# Altium footprint library BUCKCONVERTER-V1L11.PcbLib: 35 footprints (part 1 of 3)
Each footprint in its own frame and in the unit in brackets; x right, y up, seen from the top. Pads: shape width x height; smd on the part's side, far side on the other; paste and mask are expansions set on the pad; w line width, h text height; cw(c..) or ccw(c..) is an arc to the next point about the centre after c.
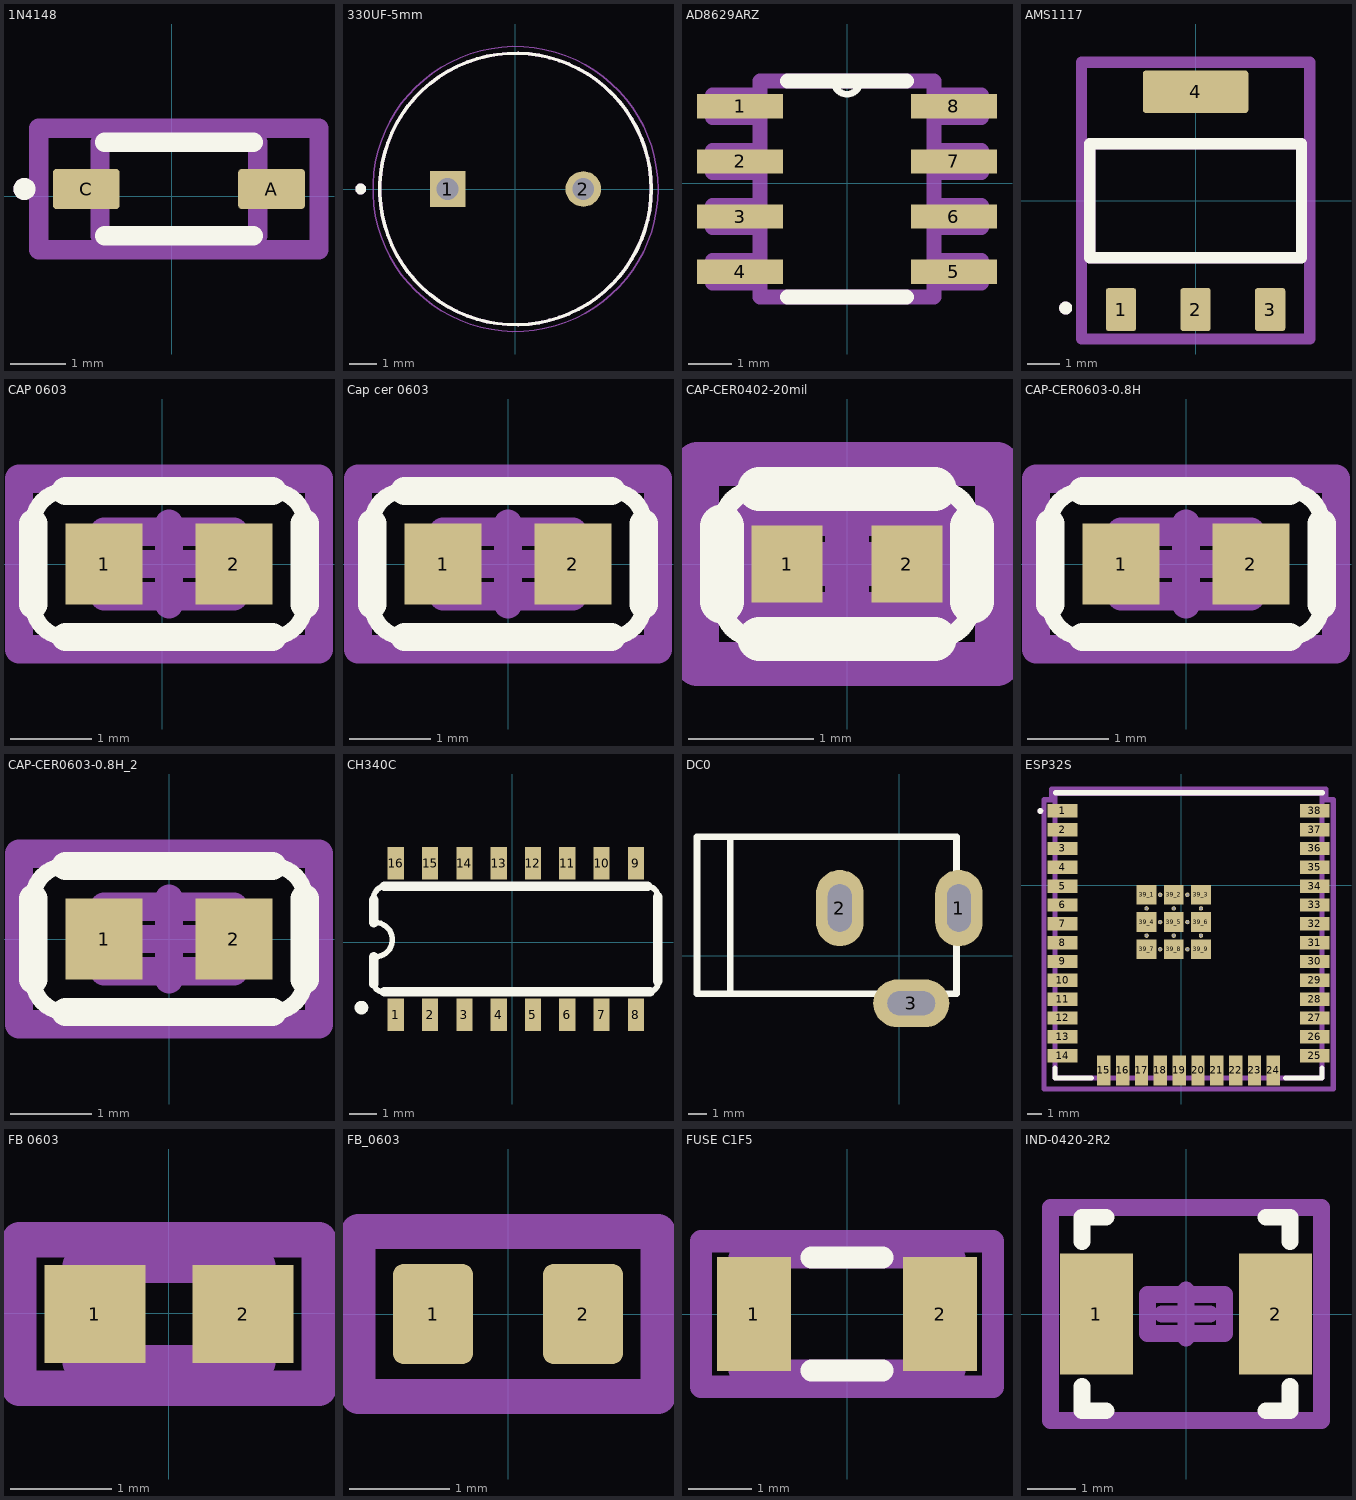
[diagram p0: the footprints below, top view; thin cyan lines are the x and y axes]

## 1N4148 [mm]
pads (2):
  rrect18% 1.21x0.73 smd: A(1.807,0.127) C(-1.553,0.127)
Top Overlay:
  circle w0.2: c-2.673,0.127 r0.1
  lines w0.35: -1.223,-0.723 1.477,-0.723 ; -1.223,0.977 1.477,0.977
Mechanical 13:
  circle w0.2: c-2.673,0.127 r0.1
  lines w0.35: -1.303,-0.723 1.557,-0.723 1.557,0.977 -1.303,0.977 -1.303,-0.723
Mechanical 15:
  lines w0.35: -2.413,-0.973 2.667,-0.973 2.667,1.227 -2.413,1.227 -2.413,-0.973
3D body "step_temp.STEP": height 0.74, standoff -0.71, extent -1.698,-0.648 1.952,0.902

## 330UF-5mm [mm]
pads (2):
  rect 1.308x1.308 / inner round 1.308 / far side rect 1.308x1.308 hole 0.8: 1(-2.5,0)
  round 1.308 hole 0.8: 2(2.5,0)
Top Overlay:
  circle w0.2: c-5.7,0 r0.1
  circle w0.127: c0,0 r5
Mechanical 13:
  circle w0.2: c-5.7,0 r0.1
  circle w0.127: c0,0 r5
Mechanical 15:
  circle w0.05: c0,0 r5.25
3D body "step_temp.STEP": height 20, standoff -19, extent -5,-4.996 5,4.996

## AD8629ARZ [mil]
pads (8):
  rect 78x22 smd: 1(-97,70) 2(-97,20) 3(-97,-30) 4(-97,-80) 5(97,-80) 6(97,-30) 7(97,20) 8(97,70)
Top Overlay:
  lines w6: -12,93 ccw(c0,93) 12,93
  lines w13.78: -54,-103 54,-103 ; -54,93 -12,93 12,93 54,93
Mechanical 13:
  lines w0: -12,93 ccw(c0,93) 12,93
  lines w13.78: -122,-90 -79,-90 -79,-70 -122,-70 -122,-90 ; -122,-40 -79,-40 -79,-20 -122,-20 -122,-40 ; -122,10 -79,10 -79,30 -122,30 -122,10 ; -122,60 -79,60 -79,80 -122,80 -122,60 ; -79,-103 -79,93 -12,93 12,93 79,93 79,-103 -79,-103 ; 79,-90 122,-90 122,-70 79,-70 79,-90 ; 79,-40 122,-40 122,-20 79,-20 79,-40 ; 79,10 122,10 122,30 79,30 79,10 ; 79,60 122,60 122,80 79,80 79,60
3D body "step_temp.STEP": height 68.9, standoff 0, extent -118.11,-101.46 118.11,91.46

## AMS1117 [mm]
pads (4):
  rrect15% 0.93x1.31 smd: 1(-2.29,-3.345) 2(0,-3.345) 3(2.29,-3.345)
  rrect15% 3.24x1.31 smd: 4(0,3.345)
Top Overlay:
  circle w0.2: c-3.99,-3.3 r0.1
  lines w0.35: -3.253,-1.753 3.253,-1.753 3.253,1.753 -3.253,1.753 -3.253,-1.753
Mechanical 13:
  circle w0.2: c-3.99,-3.3 r0.1
  lines w0.35: -3.253,-1.753 3.253,-1.753 3.253,1.753 -3.253,1.753 -3.253,-1.753
Mechanical 15:
  lines w0.35: -3.502,-4.25 3.502,-4.25 3.502,4.25 -3.502,4.25 -3.502,-4.25
3D body "step_temp.STEP": height 1.8, standoff 0, extent -3.251,-3.499 3.251,3.499

## CAP 0603 [mm]
pads (2):
  rect 0.95x1 smd: 1(-0.715,0) 2(0.885,0)
Top Overlay:
  lines w0.2: -1.59,-0.5 ccw(c-1.19,-0.5) -1.19,-0.9 ; -1.59,0.5 cw(c-1.19,0.5) -1.19,0.9 ; 1.36,-0.9 ccw(c1.36,-0.5) 1.76,-0.5 ; 1.36,0.9 cw(c1.36,0.5) 1.76,0.5
  lines w0.35: -1.59,-0.5 -1.59,0.5 ; -1.19,-0.9 1.36,-0.9 ; -1.19,0.9 1.36,0.9 ; 1.76,-0.5 1.76,0.5
Top Value:
  lines w0.35: -0.715,-0.4 0.885,-0.4 0.885,0.4 -0.715,0.4 -0.715,-0.4
  text "'.Comment'" at -3.004,-0.4 h0.8
Top Assembly:
  lines w0.35: -0.715,-0.4 0.885,-0.4 0.885,0.4 -0.715,0.4 -0.715,-0.4
  text "'.Designator'" at -3.329,-0.266 h0.8
Bottom 3D Body:
  lines w0.35: -0.415,0 0.585,0 ; 0.085,-0.5 0.085,0.5 ; -1.765,-1.05 1.935,-1.05 1.935,1.05 -1.765,1.05 -1.765,-1.05
3D body "Ceramic_Capacitor_0603_h32mil_Solder.step": height 0.82, standoff 0, extent -1.19,-0.5 1.36,0.5

## Cap cer 0603 [mm]
pads (2):
  rect 0.95x1 smd: 1(-0.8,0.003) 2(0.8,0.003)
Top Overlay:
  lines w0.2: -1.675,-0.497 ccw(c-1.275,-0.497) -1.275,-0.897 ; -1.675,0.503 cw(c-1.275,0.503) -1.275,0.903 ; 1.275,-0.897 ccw(c1.275,-0.497) 1.675,-0.497 ; 1.275,0.903 cw(c1.275,0.503) 1.675,0.503
  lines w0.35: -1.675,-0.497 -1.675,0.503 ; -1.275,-0.897 1.275,-0.897 ; -1.275,0.903 1.275,0.903 ; 1.675,-0.497 1.675,0.503
Top Value:
  lines w0.35: -0.8,-0.397 0.8,-0.397 0.8,0.403 -0.8,0.403 -0.8,-0.397
  text "'.Comment'" at -3.089,-0.397 h0.8
Top Assembly:
  lines w0.35: -0.8,-0.397 0.8,-0.397 0.8,0.403 -0.8,0.403 -0.8,-0.397
  text "'.Designator'" at -3.414,-0.263 h0.8
Bottom 3D Body:
  lines w0.35: -0.5,0.003 0.5,0.003 ; 0,-0.497 0,0.503 ; -1.85,-1.047 1.85,-1.047 1.85,1.053 -1.85,1.053 -1.85,-1.047
3D body "Ceramic_Capacitor_0603_h32mil_Solder.step": height 0.82, standoff 0, extent -1.275,-0.497 1.275,0.503

## CAP-CER0402-20mil [mm]
pads (2):
  rect 0.57x0.62 smd: 1(-0.48,0) 2(0.48,0)
Top Overlay:
  lines w0.152: -1,-0.3 ccw(c-0.7,-0.3) -0.7,-0.6 ; -1,0.3 cw(c-0.7,0.3) -0.7,0.6 ; 0.7,-0.6 ccw(c0.7,-0.3) 1,-0.3 ; 0.7,0.6 cw(c0.7,0.3) 1,0.3
  lines w0.35: -1,-0.3 -1,0.3 ; -0.7,-0.6 0.7,-0.6 ; -0.7,0.6 0.7,0.6 ; 1,-0.3 1,0.3
Top Courtyard:
  lines w0.35: -0.5,0 0.5,0 ; 0,-0.5 0,0.5 ; -1.2,-0.8 1.2,-0.8 1.2,0.8 -1.2,0.8 -1.2,-0.8
Top Value:
  lines w0.35: -0.8,-0.4 -0.8,0.4 0.8,0.4 0.8,-0.4 -0.8,-0.4
  text "'.Comment'" at -3.089,-0.4 h0.8
Top Assembly:
  lines w0.35: -0.8,-0.4 -0.8,0.4 0.8,0.4 0.8,-0.4 -0.8,-0.4
  text "'.Designator'" at -3.414,-0.266 h0.8
Mechanical 20:
  lines w0.35: -0.8,-0.4 -0.8,0.4 0.8,0.4 0.8,-0.4 -0.8,-0.4
  text "'.Designator'" at -3.414,-0.266 h0.8
3D body "Ceramic_Capacitor_0402_h20mil_Solder.step": height 0.53, standoff 0, extent -0.8,-0.325 0.8,0.325

## CAP-CER0603-0.8H [mm]
pads (2):
  rect 0.95x1 smd: 1(-0.8,0) 2(0.8,0)
Top Overlay:
  lines w0.2: -1.675,-0.5 ccw(c-1.275,-0.5) -1.275,-0.9 ; -1.675,0.5 cw(c-1.275,0.5) -1.275,0.9 ; 1.275,-0.9 ccw(c1.275,-0.5) 1.675,-0.5 ; 1.275,0.9 cw(c1.275,0.5) 1.675,0.5
  lines w0.35: -1.675,-0.5 -1.675,0.5 ; -1.275,-0.9 1.275,-0.9 ; -1.275,0.9 1.275,0.9 ; 1.675,-0.5 1.675,0.5
Top Courtyard:
  lines w0.35: -0.5,0 0.5,0 ; 0,-0.5 0,0.5 ; -1.85,-1.05 1.85,-1.05 1.85,1.05 -1.85,1.05 -1.85,-1.05
Top Value:
  lines w0.35: -0.8,-0.4 0.8,-0.4 0.8,0.4 -0.8,0.4 -0.8,-0.4
  text "'.Comment'" at -3.089,-0.4 h0.8
Top Assembly:
  lines w0.35: -0.8,-0.4 0.8,-0.4 0.8,0.4 -0.8,0.4 -0.8,-0.4
  text "'.Designator'" at -3.414,-0.266 h0.8
Mechanical 20:
  lines w0.35: -0.8,-0.4 0.8,-0.4 0.8,0.4 -0.8,0.4 -0.8,-0.4
  text "'.Designator'" at -3.414,-0.266 h0.8
3D body "Ceramic_Capacitor_0603_h32mil_Solder.step": height 0.84, standoff 0.03, extent -1.275,-0.5 1.275,0.5

## CAP-CER0603-0.8H_2 [mm]
pads (2):
  rect 0.95x1 smd: 1(-0.8,0) 2(0.8,0)
Top Overlay:
  lines w0.2: -1.675,-0.5 ccw(c-1.275,-0.5) -1.275,-0.9 ; -1.675,0.5 cw(c-1.275,0.5) -1.275,0.9 ; 1.275,-0.9 ccw(c1.275,-0.5) 1.675,-0.5 ; 1.275,0.9 cw(c1.275,0.5) 1.675,0.5
  lines w0.35: -1.675,-0.5 -1.675,0.5 ; -1.275,-0.9 1.275,-0.9 ; -1.275,0.9 1.275,0.9 ; 1.675,-0.5 1.675,0.5
Top Courtyard:
  lines w0.35: -0.5,0 0.5,0 ; 0,-0.5 0,0.5 ; -1.85,-1.05 1.85,-1.05 1.85,1.05 -1.85,1.05 -1.85,-1.05
Top Value:
  lines w0.35: -0.8,-0.4 0.8,-0.4 0.8,0.4 -0.8,0.4 -0.8,-0.4
  text "'.Comment'" at -3.089,-0.4 h0.8
Top Assembly:
  lines w0.35: -0.8,-0.4 0.8,-0.4 0.8,0.4 -0.8,0.4 -0.8,-0.4
  text "'.Designator'" at -3.414,-0.266 h0.8
Mechanical 20:
  lines w0.35: -0.8,-0.4 0.8,-0.4 0.8,0.4 -0.8,0.4 -0.8,-0.4
  text "'.Designator'" at -3.414,-0.266 h0.8
3D body "Ceramic_Capacitor_0603_h32mil_Solder.step": height 0.84, standoff 0.03, extent -1.275,-0.5 1.275,0.5

## CH340C [mm]
pads (16):
  rect 0.6x1.2 smd: 1(-4.318,-2.673) 2(-3.048,-2.673) 3(-1.778,-2.673) 4(-0.508,-2.673) 5(0.762,-2.673) 6(2.032,-2.673) 7(3.302,-2.673) 8(4.572,-2.673) 9(4.572,2.927) 10(3.302,2.927) 11(2.032,2.927) 12(0.762,2.927) 13(-0.508,2.927) 14(-1.778,2.927) 15(-3.048,2.927) 16(-4.318,2.927)
Top Overlay:
  circle w0.254: c-5.588,-2.413 r0.127
  lines w0.203: -5.13,-1.541 ccw(c-4.8,-1.488) -4.747,-1.819 ; -5.13,1.59 cw(c-4.7,1.642) -4.753,2.073 ; -5.08,-0.533 ccw(c-5.08,0.102) -5.08,0.737 ; 5.004,2.073 cw(c5.004,1.692) 5.385,1.692 ; 5.106,-1.819 ccw(c5.054,-1.488) 5.384,-1.436
  lines w0.35: -5.131,-1.538 -5.131,-0.533 ; -5.131,0.737 -5.131,1.58 ; -4.75,-1.819 5.104,-1.819 ; -4.75,2.073 5.004,2.073 ; 5.385,-1.438 5.385,1.692
Mechanical 13:
  region: -4.064,-3.175 -4.572,-3.175 -4.572,-2.146 -4.064,-2.146
  region: -2.794,-3.175 -3.302,-3.175 -3.302,-2.146 -2.794,-2.146
  region: -1.524,-3.175 -2.032,-3.175 -2.032,-2.146 -1.524,-2.146
  region: -0.254,-3.175 -0.762,-3.175 -0.762,-2.146 -0.254,-2.146
  region: 1.016,-3.175 0.508,-3.175 0.508,-2.146 1.016,-2.146
  region: 2.286,-3.175 1.778,-3.175 1.778,-2.146 2.286,-2.146
  region: 3.556,-3.175 3.048,-3.175 3.048,-2.146 3.556,-2.146
  region: 4.826,-3.175 4.318,-3.175 4.318,-2.146 4.826,-2.146
  region: -4.064,2.413 -4.572,2.413 -4.572,3.492 -4.064,3.492
  region: -2.794,2.413 -3.302,2.413 -3.302,3.429 -2.794,3.429
  region: -1.524,2.413 -2.032,2.413 -2.032,3.429 -1.524,3.429
  region: -0.254,2.413 -0.762,2.413 -0.762,3.429 -0.254,3.429
  region: 1.016,2.413 0.508,2.413 0.508,3.429 1.016,3.429
  region: 2.286,2.413 1.778,2.413 1.778,3.429 2.286,3.429
  region: 3.556,2.413 3.048,2.413 3.048,3.429 3.556,3.429
  region: 4.826,2.413 4.318,2.413 4.318,3.429 4.826,3.429
3D body "step_temp.STEP": height 1.8, standoff 0, extent -4.873,-2.873 5.127,3.127

## DC0 [mil]
pads (3):
  oval 100x160 hole 50 slot 100 at 90 deg: 1(125,100) 2(-125,100)
  oval 160x100 hole 50 slot 100 at 0 deg: 3(25,-100)
Top Overlay:
  lines w13.78: -355,-80 -355,250 ; -425,-80 -425,250 120,250 120,-80 -425,-80
3D body "SW3dPS-dc range - dc connector[4840.2201].STEP": height 433.67, standoff -137.2, extent -410.35,-105.11 134,269.12

## ESP32S [mm]
pads (59):
  rect 2x0.9 smd: 1(-7.992,5.006) 2(-7.992,3.736) 3(-7.992,2.466) 4(-7.992,1.196) 5(-7.992,-0.074) 6(-7.992,-1.344) 7(-7.992,-2.614) 8(-7.992,-3.884) 9(-7.992,-5.154) 10(-7.992,-6.424) 11(-7.992,-7.694) 12(-7.992,-8.964) 13(-7.992,-10.234) 14(-7.992,-11.504) 25(9.008,-11.504) 26(9.008,-10.234) 27(9.008,-8.964) 28(9.008,-7.694) 29(9.008,-6.424) 30(9.008,-5.154) 31(9.008,-3.884) 32(9.008,-2.614) 33(9.008,-1.344) 34(9.008,-0.074) 35(9.008,1.196) 36(9.008,2.466) 37(9.008,3.736) 38(9.008,5.006)
  rect 0.9x2 smd: 15(-5.207,-12.504) 16(-3.937,-12.504) 17(-2.667,-12.504) 18(-1.397,-12.504) 19(-0.127,-12.504) 20(1.143,-12.504) 21(2.413,-12.504) 22(3.683,-12.504) 23(4.953,-12.504) 24(6.223,-12.504)
  rect 1.33x1.33 smd: 39_1(-2.327,-0.659) 39_2(-0.492,-0.659) 39_3(1.343,-0.659) 39_4(-2.327,-2.494) 39_5(-0.492,-2.494) 39_6(1.343,-2.494) 39_7(-2.327,-4.329) 39_8(-0.492,-4.329) 39_9(1.343,-4.329)
  round 0.3 hole 0.2: 39_10(-1.409,-0.659) 39_11(0.426,-0.659) 39_12(-2.327,-1.576) 39_13(-0.492,-1.576) 39_14(1.343,-1.576) 39_15(-1.409,-2.494) 39_16(0.426,-2.494) 39_17(-2.327,-3.411) 39_18(-0.492,-3.411) 39_19(1.343,-3.411) 39_20(-1.409,-4.329) 39_21(0.426,-4.329)
Top Overlay:
  circle w0.2: c-9.492,4.996 r0.1
  lines w0.35: -8.492,-12.354 -8.492,-13.004 -6.042,-13.004 ; -8.475,6.223 9.525,6.223 ; 7.058,-13.004 9.508,-13.004 9.508,-12.354
Mechanical 13:
  circle w0.2: c-9.492,4.996 r0.1
  lines w0.35: -8.492,6.196 9.508,6.196 ; -8.492,6.196 -8.492,-13.004 9.508,-13.004 9.508,6.196 ; -8.492,6.196 9.508,6.196
Mechanical 15:
  lines w0.35: -9.242,-13.754 -9.242,5.746 -8.742,5.746 -8.742,6.477 9.758,6.477 9.758,5.746 10.258,5.746 10.258,-13.754 -9.242,-13.754
3D body "ESP32WROOM32UEN8--3DModel-STEP-269445.STEP": height 3.35, standoff 0, extent -8.492,-13.028 9.508,6.172

## FB 0603 [mm]
pads (2):
  rect 1x0.97 smd: 1(-0.733,-0.006) 2(0.737,-0.006)
Mechanical 13:
  lines w0.35: -0.878,-0.486 0.882,-0.486 0.882,0.474 -0.878,0.474 -0.878,-0.486
Mechanical 15:
  lines w0.35: -1.483,-0.741 1.487,-0.741 1.487,0.729 -1.483,0.729 -1.483,-0.741
3D body "BLM18KG121TN1D.STEP": height 0.75, standoff 0, extent -0.788,-0.361 0.812,0.439

## FB_0603 [mm]
pads (2):
  rrect25% 0.8x1 smd: 1(-0.75,0) 2(0.75,0)
Mechanical 13:
  lines w0.35: -1.5,-0.825 -1.5,0.825 1.5,0.825 1.5,-0.825 -1.5,-0.825
  text "'.Designator'" at -3.415,-0.267 h0.8
3D body "FB-0603.STEP": height 0.81, standoff 0.01, extent -0.8,-0.4 0.8,0.4

## FUSE C1F5 [mm]
pads (2):
  rect 1.17x1.8 smd: 1(-1.47,0) 2(1.47,0)
Top Overlay:
  lines w0.35: -0.56,-0.89 0.56,-0.89 ; -0.56,0.89 0.56,0.89
Mechanical 13:
  lines w0.35: -1.7,-0.89 -1.7,0.89 1.7,0.89 1.7,-0.89 -1.7,-0.89
Mechanical 15:
  lines w0.35: -2.305,-1.15 -2.305,1.15 2.305,1.15 2.305,-1.15 -2.305,-1.15
3D body "C1F 5.step": height 0.8, standoff -0.03, extent -1.652,-0.8 1.548,0.78

## IND-0420-2R2 [mm]
pads (2):
  rect 1.5x2.5 smd: 1(-1.85,0) 2(1.85,0)
Top Overlay:
  lines w0.35: -2.15,-1.5 -2.15,-2 -1.65,-2 ; -2.15,1.5 -2.15,2 -1.65,2 ; 1.65,-2 2.15,-2 2.15,-1.5 ; 1.65,2 2.15,2 2.15,1.5
Top Courtyard:
  lines w0.35: -0.5,0 0.5,0 ; 0,-0.5 0,0.5 ; -2.8,-2.2 -2.8,2.2 2.8,2.2 2.8,-2.2 -2.8,-2.2
Top Value:
  text "'.Comment'" at -3.089,-0.4 h0.8
Top Assembly:
  text "'.Designator'" at -3.414,-0.266 h0.8
Mechanical 20:
  lines w0.35: -0.8,-0.4 0.8,-0.4 ; -0.8,-0.4 -0.8,0.4 ; -0.8,-0.4 0.8,-0.4 ; -0.8,-0.4 -0.8,0.4 ; -0.8,0.4 0.8,0.4 ; -0.8,0.4 0.8,0.4 ; 0.8,-0.4 0.8,0.4 ; 0.8,-0.4 0.8,0.4
  text "'.Designator'" at -3.414,-0.266 h0.8
  text "'.Designator'" at -3.414,-0.266 h0.8
3D body "CIP0420-2R2.STEP": height 2.2, standoff 0, extent -2.15,-2 2.15,2